# Altium footprint library SensorBoard.PcbLib: 12 footprints
Each footprint in its own frame and in the unit in brackets; x right, y up, seen from the top. Pads: shape width x height; smd on the part's side, far side on the other; paste and mask are expansions set on the pad; w line width, h text height; cw(c..) or ccw(c..) is an arc to the next point about the centre after c.
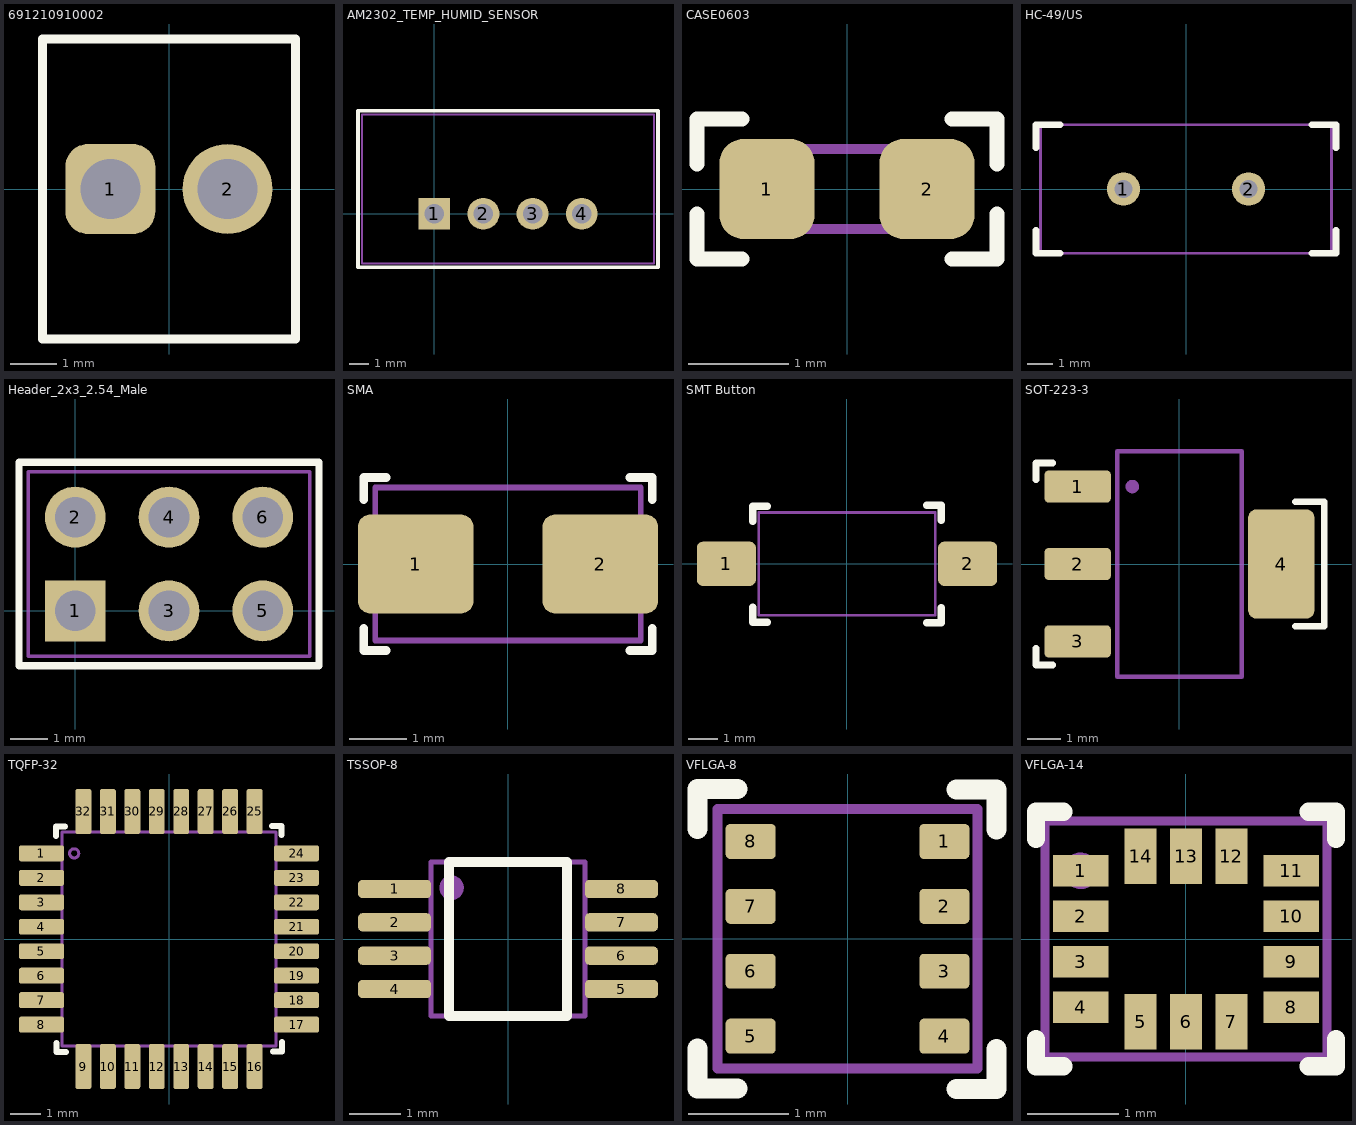
[diagram p0: the footprints below, top view; thin cyan lines are the x and y axes]

## 691210910002 [mm] "2,54mm - modular - green - Horizontal wire entry - Cage clamp - 0,8mm2 wires - 02p"
height 8.5
pads (2):
  rrect50% 1.95x1.95 hole 1.3: 1(-1.27,0)
  round 1.95 hole 1.3: 2(1.27,0)
Top Overlay:
  lines w0.2: -2.74,-3.25 2.74,-3.25 2.74,3.25 -2.74,3.25 -2.74,-3.25
Top Mechanical:
  lines w0.1: -2.74,-3.25 2.74,-3.25 2.74,3.25 -2.74,3.25 -2.74,-3.25
  text ".Designator" at -3.378,-0.339 h1.5
3D body "691210910002.stp": height 8.55, standoff -3.45, extent -2.74,-3.25 2.74,3.25

## AM2302_TEMP_HUMID_SENSOR [mm]
pads (4):
  rect 1.65x1.65 hole 1: 1(0,0)
  round 1.65 hole 1: 2(2.54,0) 3(5.08,0) 4(7.62,0)
Top Overlay:
  lines w0.2: -3.94,-2.76 -3.94,5.32 11.56,5.32 11.56,-2.76 -3.94,-2.76
Top Mechanical:
  lines w0.1: -3.74,-2.56 -3.74,5.12 11.36,5.12 11.36,-2.56 -3.74,-2.56
  text ".Designator" at -2.812,0.404 h3
3D body: height 8.5, standoff -8.5, extent 7.37,-0.25 7.87,0.25
3D body: height 8.5, standoff -8.5, extent 4.83,-0.25 5.33,0.25
3D body: height 8.5, standoff -8.5, extent 2.29,-0.25 2.79,0.25
3D body: height 8.5, standoff -8.5, extent -0.25,-0.25 0.25,0.25
3D body: height 20, standoff 0, extent -3.74,-2.56 11.36,5.12
3D body: height 25.1, standoff 20, extent -3.74,-2.56 11.36,-2.065

## CASE0603 [mm]
pads (2):
  rrect50% 0.95x1 smd: 1(-0.8,0) 2(0.8,0)
Top Overlay:
  lines w0.15: -1.5,-0.25 -1.5,-0.7 -1.05,-0.7 ; -1.5,0.25 -1.5,0.7 -1.05,0.7 ; 1.05,-0.7 1.5,-0.7 1.5,-0.25 ; 1.05,0.7 1.5,0.7 1.5,0.25
Top Mechanical:
  lines w0.1: -0.8,-0.4 0.8,-0.4 0.8,0.4 -0.8,0.4 -0.8,-0.4
  text ".Designator" at -0.466,-0.109 h0.5
3D body "CircuitWorks-CAPACITOR 0603.step": height 0.85, standoff -0.01, extent -0.8,-0.43 0.8,0.43

## HC-49/US [mm] "Crystal, Thru-Hole; 2 Leads"
height 3.5
pads (2):
  round 1.3 hole 0.7: 1(-2.44,0) 2(2.44,0)
Top Overlay:
  lines w0.254: -5.85,-1.6 -5.85,-2.5 -4.9,-2.5 ; -5.85,1.6 -5.85,2.5 -4.9,2.5 ; 4.9,-2.5 5.85,-2.5 5.85,-1.6 ; 4.9,2.5 5.85,2.5 5.85,1.6
Top Mechanical:
  lines w0.1: -5.675,-2.5 5.675,-2.5 5.675,2.5 -5.675,2.5 -5.675,-2.5
  text ".Designator" at -4.084,-0.314 h1.52
3D body: height 3.61, standoff 0, extent -3.7,-1.325 3.6,1.3
3D body "User Library-HC-49_LT_THT.STEP": height 3.6, standoff -1.99, extent -5.675,-2.325 5.675,2.325

## Header_2x3_2.54_Male [mm]
pads (6):
  rect 1.65x1.65 hole 1.1: 1(0,0)
  round 1.65 hole 1.1: 2(0,2.54) 3(2.54,0) 4(2.54,2.54) 5(5.08,0) 6(5.08,2.54)
Top Overlay:
  lines w0.2: -1.524,-1.484 -1.524,4.024 6.604,4.024 6.604,-1.484 -1.524,-1.484
Top Mechanical:
  lines w0.1: -1.27,-1.23 6.35,-1.23 6.35,3.77 -1.27,3.77 -1.27,-1.23
  text ".Designator" at -0.837,0.977 h1.52
3D body "PH2-06-UA.stp": height 9.01, standoff -3.56, extent -1.27,-1.23 6.35,3.77

## SMA [mm] "Resistor CASE 1206"
height 0.6
pads (2):
  rrect25% 2x1.72 smd mask+0.102: 1(-1.6,0) 2(1.6,0)
Top Overlay:
  lines w0.15: -2.5,-1.114 -2.5,-1.5 -2.114,-1.5 ; -2.5,1.114 -2.5,1.5 -2.114,1.5 ; 2.114,-1.5 2.5,-1.5 2.5,-1.114 ; 2.114,1.5 2.5,1.5 2.5,1.114
Top Mechanical:
  lines w0.1: -2.3,-1.325 -2.3,1.325 2.3,1.325 2.3,-1.325 -2.3,-1.325
  text ".Designator" at -1.4,-0.4 h1.52
3D body "p25.stp": height 2.17, standoff 0, extent -2.538,-1.354 2.512,1.346

## SMT Button [mm] "Button"
pads (2):
  rrect25% 2x1.5 smd: 1(-4.1,0) 2(4.1,0)
Top Overlay:
  lines w0.254: -3.211,-1.482 -3.211,-1.982 -2.711,-1.982 ; -3.21,1.451 -3.21,1.951 -2.71,1.951 ; 2.711,1.982 3.211,1.982 3.211,1.482 ; 2.712,-1.998 3.212,-1.998 3.212,-1.498
Top Mechanical:
  lines w0.1: -3,-1.75 -3,1.75 3,1.75 3,-1.75 -3,-1.75
  text ".Designator" at -4.084,-0.314 h1.52
3D body "PTS636SL43SMTRLFS.stp": height 4.3, standoff -0.03, extent -4.3,-1.75 4.3,1.75

## SOT-223-3 [mm]
pads (4):
  rrect25% 1.97x0.95 smd: 1(-3.025,2.3) 2(-3.025,0) 3(-3.025,-2.3)
  rrect25% 1.97x3.25 smd: 4(3.025,0)
Top Overlay:
  lines w0.2: -4.262,-2.5 -4.262,-3 -3.762,-3 ; -4.262,2.5 -4.262,3 -3.762,3 ; 3.45,-1.85 4.3,-1.85 4.3,1.85 3.45,1.85
  text "." at -3.146,3.154 h1.52
Top Mechanical:
  circle w0.2: c-1.4,2.3 r0.1
  lines w0.127: -1.85,-3.35 1.85,-3.35 1.85,3.35 -1.85,3.35 -1.85,-3.35
  text ".Designator" at -4.084,-0.314 h1.52
3D body "SOT-223_3MC_MCH.step": height 1.8, standoff 0, extent -3.65,-3.35 3.65,3.35

## TQFP-32 [mm]
pads (32):
  rrect25% 1.47x0.52 smd: 1(-4.17,2.8) 2(-4.17,2) 3(-4.17,1.2) 4(-4.17,0.4) 5(-4.17,-0.4) 6(-4.17,-1.2) 7(-4.17,-2) 8(-4.17,-2.8) 17(4.17,-2.8) 18(4.17,-2) 19(4.17,-1.2) 20(4.17,-0.4) 21(4.17,0.4) 22(4.17,1.2) 23(4.17,2) 24(4.17,2.8)
  rrect25% 0.52x1.47 smd: 9(-2.8,-4.17) 10(-2,-4.17) 11(-1.2,-4.17) 12(-0.4,-4.17) 13(0.4,-4.17) 14(1.2,-4.17) 15(2,-4.17) 16(2.8,-4.17) 25(2.8,4.17) 26(2,4.17) 27(1.2,4.17) 28(0.4,4.17) 29(-0.4,4.17) 30(-1.2,4.17) 31(-2,4.17) 32(-2.8,4.17)
Top Overlay:
  lines w0.2: -3.7,3.378 -3.7,3.678 -3.4,3.678 ; -3.678,-3.4 -3.678,-3.7 -3.378,-3.7 ; 3.378,3.7 3.678,3.7 3.678,3.4 ; 3.4,-3.678 3.7,-3.678 3.7,-3.378
  text "." at -5.546,2.654 h1.52
Top Mechanical:
  circle w0.1: c-3.1,2.8 r0.15
  lines w0.1: -3.5,-3.5 3.5,-3.5 3.5,3.5 -3.5,3.5 -3.5,-3.5
  text ".Designator" at -2.352,-0.212 h1
3D body "TQFP32_32A_MCH.step": height 1.2, standoff 0, extent -4.623,-4.623 4.623,4.623

## TSSOP-8 [mm]
pads (8):
  rrect50% 1.425x0.36 smd: 1(-2.212,0.975) 2(-2.212,0.325) 3(-2.212,-0.325) 4(-2.212,-0.975) 5(2.212,-0.975) 6(2.212,-0.325) 7(2.212,0.325) 8(2.212,0.975)
Top Overlay:
  lines w0.2: -1.15,-1.5 1.15,-1.5 1.15,1.5 -1.15,1.5 -1.15,-1.5
  text "." at -2.296,1.504 h1.52
Top Mechanical:
  circle w0.254: c-1.1,1 r0.112
  lines w0.1: -1.5,-1.5 -1.5,1.5 1.5,1.5 1.5,-1.5 -1.5,-1.5
  text ".Designator" at -3.434,-0.214 h1.52
3D body "MAX3471EUA+.stp": height 1.1, standoff 0, extent -2.452,-1.5 2.452,1.5

## VFLGA-8 [mm] "Sensor"
pads (8):
  rrect25% 0.5x0.35 smd: 1(0.97,0.975) 2(0.97,0.325) 3(0.97,-0.325) 4(0.97,-0.975) 5(-0.97,-0.975) 6(-0.97,-0.325) 7(-0.97,0.325) 8(-0.97,0.975)
Top Overlay:
  lines w0.2: -1.5,-1.1 -1.5,-1.5 -1.1,-1.5 ; -1.5,1.1 -1.5,1.5 -1.1,1.5 ; 1.089,-1.504 1.489,-1.504 1.489,-1.104 ; 1.089,1.496 1.489,1.496 1.489,1.096
  text "." at 1.754,0.854 h1.52
Top Mechanical:
  circle w0.2: c1,1 r0.05
  lines w0.1: -1.3,-1.3 1.3,-1.3 1.3,1.3 -1.3,1.3 -1.3,-1.3
  text ".Designator" at -3.434,-0.214 h1.52
3D body "BME-280.step": height 1, standoff 0, extent -1.25,-1.25 1.25,1.25

## VFLGA-14 [mm]
pads (14):
  rect 0.61x0.35 smd mask+0: 1(-1.16,0.75) 2(-1.16,0.25) 3(-1.16,-0.25) 4(-1.16,-0.75) 8(1.16,-0.75) 9(1.16,-0.25) 10(1.16,0.25) 11(1.16,0.75)
  rect 0.35x0.61 smd mask+0: 5(-0.5,-0.91) 6(0,-0.91) 7(0.5,-0.91) 12(0.5,0.91) 13(0,0.91) 14(-0.5,0.91)
Top Overlay:
  lines w0.2: -1.65,-1.1 -1.65,-1.4 -1.35,-1.4 ; -1.65,1.1 -1.65,1.4 -1.35,1.4 ; 1.35,-1.4 1.65,-1.4 1.65,-1.1 ; 1.35,1.4 1.65,1.4 1.65,1.1
  text "." at -2.296,0.854 h1.52
Top Mechanical:
  circle w0.2: c-1.16,0.75 r0.1
  lines w0.1: -1.55,-1.3 1.55,-1.3 1.55,1.3 -1.55,1.3 -1.55,-1.3
  text ".Designator" at -3.334,-0.314 h1.52
3D body "LSM6DSOXTR.step": height 0.86, standoff 0, extent -1.5,-1.25 1.5,1.25